# Altium footprint library Components - 07.11.24 - 09.55.PcbLib: 1 footprints
Each footprint in its own frame and in the unit in brackets; x right, y up, seen from the top. Pads: shape width x height; smd on the part's side, far side on the other; paste and mask are expansions set on the pad; w line width, h text height; cw(c..) or ccw(c..) is an arc to the next point about the centre after c.
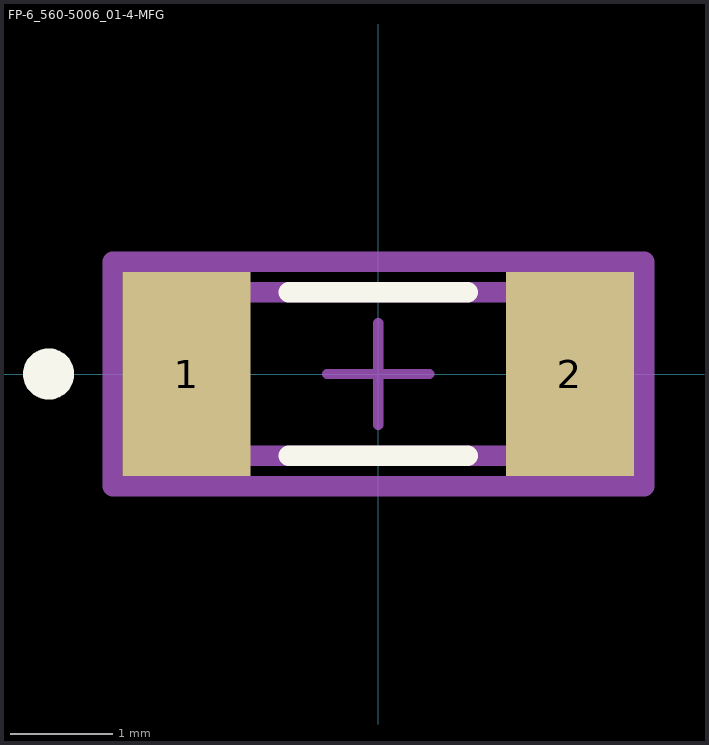
[diagram p0: the footprint, top view; thin cyan lines are the x and y axes]

## FP-6_560-5006_01-4-MFG [mm]
pads (2):
  rect 1.25x2 smd paste+0 mask+0: 1(-1.875,0) 2(1.875,0)
Top Overlay:
  circle w0.25: c-3.225,0 r0.125
  lines w0.2: -0.875,-0.8 0.875,-0.8 ; -0.875,0.8 0.875,0.8
Mechanical 5:
  lines w0.2: -2.6,-1.1 2.6,-1.1 2.6,1.1 -2.6,1.1 -2.6,-1.1
  text ".Designator" at 0,-0.001 h1
Mechanical 13:
  lines w0.2: -1.85,-0.8 1.85,-0.8 1.85,0.8 -1.85,0.8 -1.85,-0.8
Mechanical 15:
  lines w0.2: -2.6,-1.1 2.6,-1.1 2.6,1.1 -2.6,1.1 -2.6,-1.1
Mechanical 16:
  lines w0.1: -0.5,0 0.5,0 ; 0,-0.5 0,0.5
3D body "Diode_Vishay_Semiconductor_Diodes_Division_LS4148-GS08_eec.STEP": height 0.25, standoff 0, extent -2.6,-1.1 2.6,1.1